# Altium footprint library EC12D1524403.PcbLib: 1 footprints
Each footprint in its own frame and in the unit in brackets; x right, y up, seen from the top. Pads: shape width x height; smd on the part's side, far side on the other; paste and mask are expansions set on the pad; w line width, h text height; cw(c..) or ccw(c..) is an arc to the next point about the centre after c.
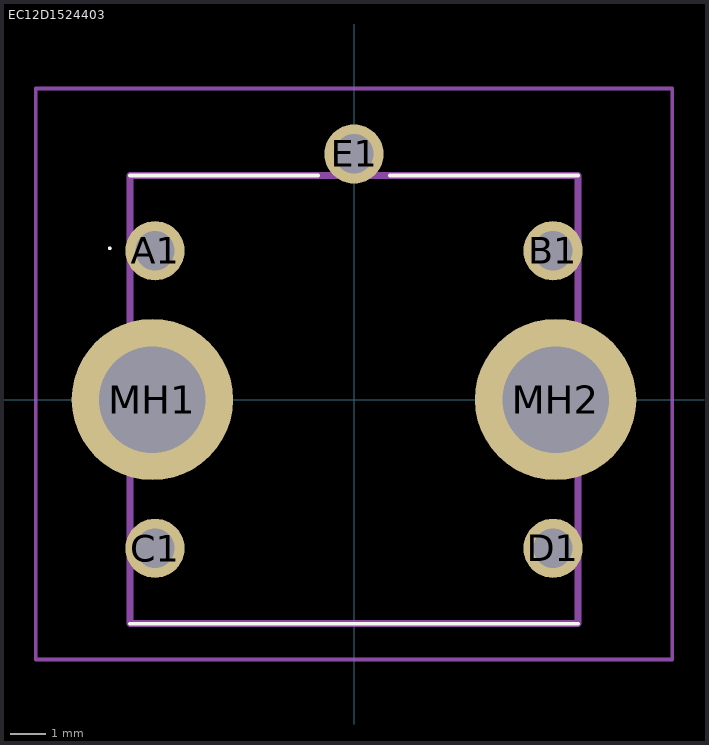
[diagram p0: the footprint, top view; thin cyan lines are the x and y axes]

## EC12D1524403 [mm]
pads (7):
  round 1.65 hole 1.1: A1(-5.55,4.15) B1(5.55,4.15) C1(-5.55,-4.15) D1(5.55,-4.15) E1(0,6.85)
  round 4.5 hole 2.97: MH1(-5.625,0) MH2(5.625,0)
Top Overlay:
  lines w0.052: -6.835,4.219 -6.835,4.219 ; -6.835,4.219 ccw(c-6.809,4.219) -6.783,4.219 ; -6.835,4.219 cw(c-6.809,4.219) -6.783,4.219 ; -6.783,4.219 -6.783,4.219
  lines w0.1: -6.25,-6.25 6.25,-6.25 ; -6.25,6.25 -1,6.25 ; 1,6.25 6.25,6.25
Mechanical 15:
  lines w0.2: -6.25,-6.25 6.25,-6.25 6.25,6.25 -6.25,6.25 -6.25,-6.25
Mechanical 20:
  lines w0.1: -8.875,-7.25 8.875,-7.25 8.875,8.675 -8.875,8.675 -8.875,-7.25